# EAGLE library part AD9523BCPZ (library AD9523BCPZ)
AD9523BCPZ, PLL Clock Driver Dual, 72-Pin LFCSP VQ Source: Datasheet <https://componentsearchengine.com/Datasheets/1/AD9523BCPZ.pdf>
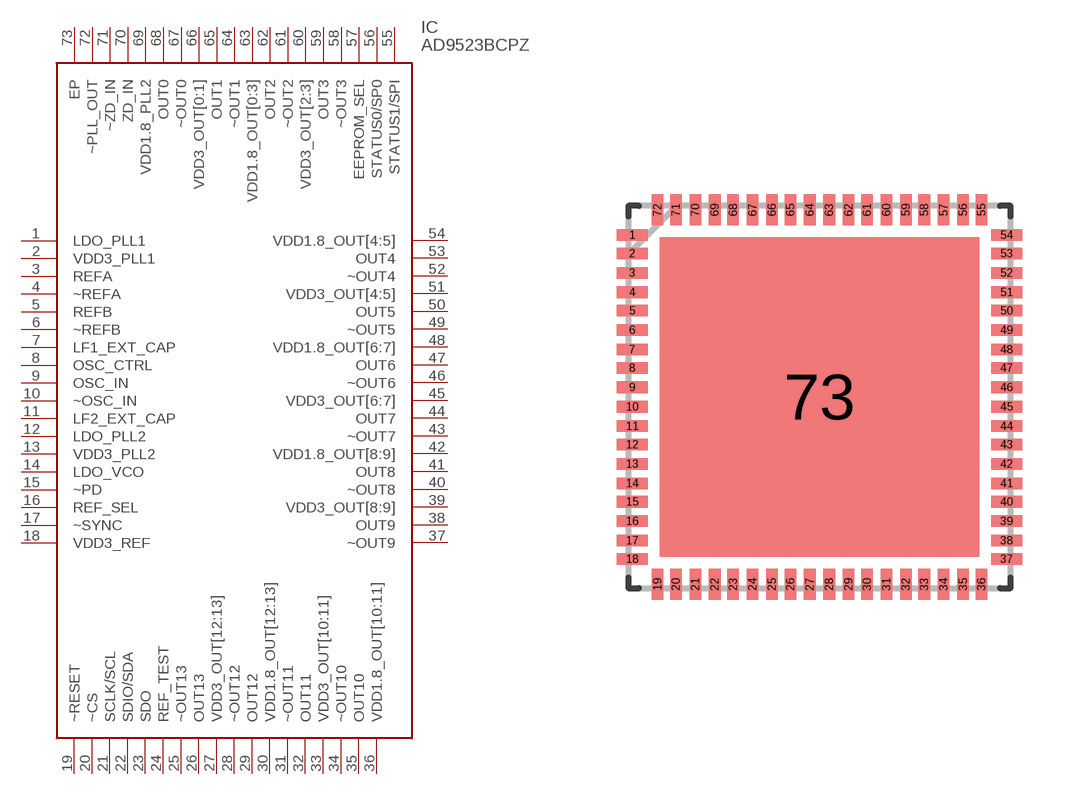
[diagram p0: symbol with the pads of QFN50P1000X1000X100-73N; footprint QFN50P1000X1000X100-73N]

Designator prefix IC

## AD9523BCPZ (Description: AD9523BCPZ, PLL Clock Driver Dual, 72-Pin LFCSP VQ; Height: mm; Manufacturer_Name: Analog Devices; Manufacturer_Part_Number: AD9523BCPZ; Mouser_Part_Number: 584-AD9523BCPZ; Mouser_Price-Stock: https://www.mouser.com/Search/Refine.aspx?Keyword=584-AD9523BCPZ)  [QFN50P1000X1000X100-73N]
1  LDO_PLL1
2  VDD3_PLL1
3  REFA
4  ~REFA
5  REFB
6  ~REFB
7  LF1_EXT_CAP
8  OSC_CTRL
9  OSC_IN
10  ~OSC_IN
11  LF2_EXT_CAP
12  LDO_PLL2
13  VDD3_PLL2
14  LDO_VCO
15  ~PD
16  REF_SEL
17  ~SYNC
18  VDD3_REF
19  ~RESET
20  ~CS
21  SCLK/SCL
22  SDIO/SDA
23  SDO
24  REF_TEST
25  ~OUT13
26  OUT13
27  VDD3_OUT[12:13]
28  ~OUT12
29  OUT12
30  VDD1.8_OUT[12:13]
31  ~OUT11
32  OUT11
33  VDD3_OUT[10:11]
34  ~OUT10
35  OUT10
36  VDD1.8_OUT[10:11]
37  ~OUT9
38  OUT9
39  VDD3_OUT[8:9]
40  ~OUT8
41  OUT8
42  VDD1.8_OUT[8:9]
43  ~OUT7
44  OUT7
45  VDD3_OUT[6:7]
46  ~OUT6
47  OUT6
48  VDD1.8_OUT[6:7]
49  ~OUT5
50  OUT5
51  VDD3_OUT[4:5]
52  ~OUT4
53  OUT4
54  VDD1.8_OUT[4:5]
55  STATUS1/SPI
56  STATUS0/SP0
57  EEPROM_SEL
58  ~OUT3
59  OUT3
60  VDD3_OUT[2:3]
61  ~OUT2
62  OUT2
63  VDD1.8_OUT[0:3]
64  ~OUT1
65  OUT1
66  VDD3_OUT[0:1]
67  ~OUT0
68  OUT0
69  VDD1.8_PLL2
70  ZD_IN
71  ~ZD_IN
72  ~PLL_OUT
73  EP

## Footprint QFN50P1000X1000X100-73N (pad centres in mm)
QFN50P1000X1000X100-73N
smd 0.813 x 0.305: 1 -4.902,4.242; 2 -4.902,3.759; 3 -4.902,3.251; 4 -4.902,2.743; 5 -4.902,2.261; 6 -4.902,1.753; 7 -4.902,1.245; 8 -4.902,0.762; 9 -4.902,0.254; 10 -4.902,-0.254; 11 -4.902,-0.762; 12 -4.902,-1.245; 13 -4.902,-1.753; 14 -4.902,-2.261; 15 -4.902,-2.743; 16 -4.902,-3.251; 17 -4.902,-3.759; 18 -4.902,-4.242; 37 4.902,-4.242; 38 4.902,-3.759; 39 4.902,-3.251; 40 4.902,-2.743; 41 4.902,-2.261; 42 4.902,-1.753; 43 4.902,-1.245; 44 4.902,-0.762; 45 4.902,-0.254; 46 4.902,0.254; 47 4.902,0.762; 48 4.902,1.245; 49 4.902,1.753; 50 4.902,2.261; 51 4.902,2.743; 52 4.902,3.251; 53 4.902,3.759; 54 4.902,4.242
smd 0.305 x 0.813: 19 -4.242,-4.902; 20 -3.759,-4.902; 21 -3.251,-4.902; 22 -2.743,-4.902; 23 -2.261,-4.902; 24 -1.753,-4.902; 25 -1.245,-4.902; 26 -0.762,-4.902; 27 -0.254,-4.902; 28 0.254,-4.902; 29 0.762,-4.902; 30 1.245,-4.902; 31 1.753,-4.902; 32 2.261,-4.902; 33 2.743,-4.902; 34 3.251,-4.902; 35 3.759,-4.902; 36 4.242,-4.902; 55 4.242,4.902; 56 3.759,4.902; 57 3.251,4.902; 58 2.743,4.902; 59 2.261,4.902; 60 1.753,4.902; 61 1.245,4.902; 62 0.762,4.902; 63 0.254,4.902; 64 -0.254,4.902; 65 -0.762,4.902; 66 -1.245,4.902; 67 -1.753,4.902; 68 -2.261,4.902; 69 -2.743,4.902; 70 -3.251,4.902; 71 -3.759,4.902; 72 -4.242,4.902
smd 8.357 x 8.357: 73 0,0